# EAGLE library part 74HC595 (library diadzine)
8-bit shift register With 3-state output registers
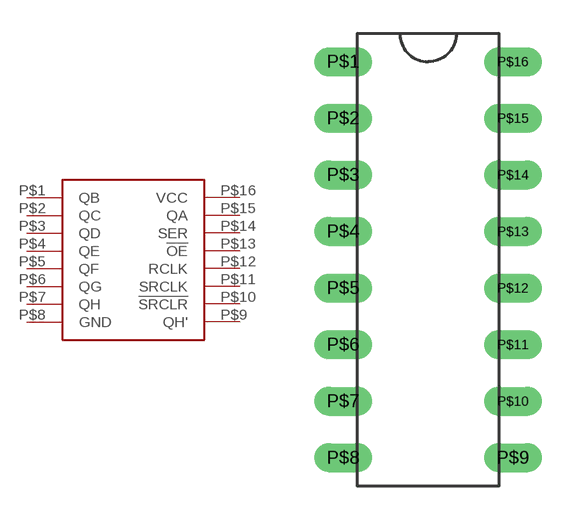
[diagram p1: symbol with the pads of DIL16; footprint DIL16]

Designator prefix -

## 74HC595N  [DIL16]
P$1  QB
P$2  QC
P$3  QD
P$4  QE
P$5  QF
P$6  QG
P$7  QH
P$8  GND
P$9  QH'
P$10  !SRCLR!
P$11  SRCLK
P$12  RCLK
P$13  !OE!
P$14  SER
P$15  QA
P$16  VCC

## Footprint DIL16 (pad centres in mm)
Dual In Line Package
drill 0.8 long: P$1 0,0; P$2 0,-2.54; P$3 0,-5.08; P$4 0,-7.62; P$5 0,-10.16; P$6 0,-12.7; P$7 0,-15.24; P$8 0,-17.78; P$9 7.62,-17.78; P$10 7.62,-15.24; P$11 7.62,-12.7; P$12 7.62,-10.16; P$13 7.62,-7.62; P$14 7.62,-5.08; P$15 7.62,-2.54; P$16 7.62,0